# Altium schematic symbol library GDK.SchLib: 5 symbols
Pins are listed as number, name and electrical type; pins without a type are passive.

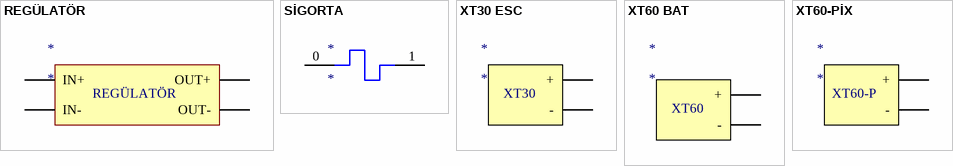
[diagram p0: symbols REGÜLATÖR to XT60-PİX]

## REGÜLATÖR
designator *
footprint REGÜLATÖR
pins: 1 IN+, 2 IN-, 3 OUT+, 4 OUT-

## SİGORTA
designator *
footprint SİGORTA
pins: 0, 1

## XT30 ESC
designator *
footprint XT30 ESC
pins: N -, P +
text: XT30

## XT60 BAT
designator *
footprint XT60 BATARYA
pins: 1 +, 2 -
text: XT60

## XT60-PİX
designator *
footprint XT60 PİXHAWK
pins: 1 +, 2 -
text: XT60-P